# Altium footprint library dc-dc-converter.PCBLIB: 16 footprints
Each footprint in its own frame and in the unit in brackets; x right, y up, seen from the top. Pads: shape width x height; smd on the part's side, far side on the other; paste and mask are expansions set on the pad; w line width, h text height; cw(c..) or ccw(c..) is an arc to the next point about the centre after c.
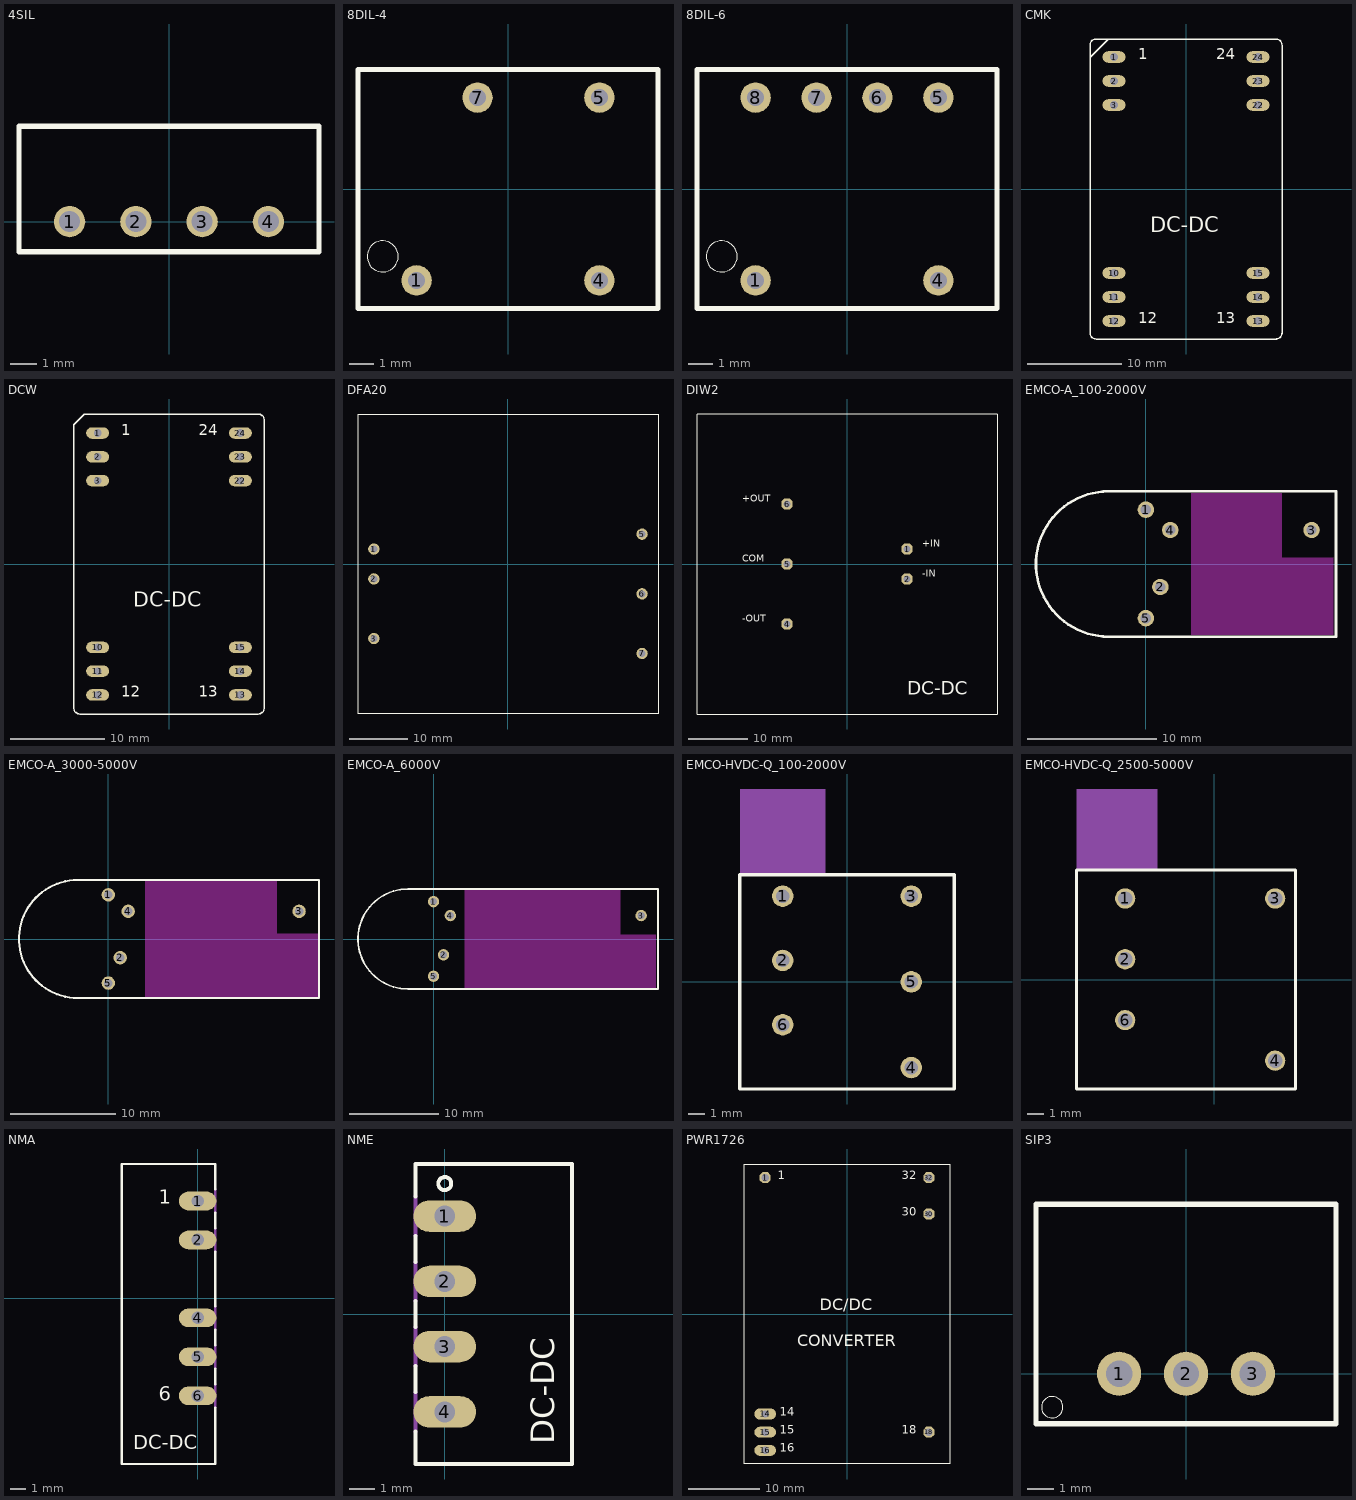
[diagram p0: the footprints below, top view; thin cyan lines are the x and y axes]

## 4SIL [mil]
pads (4):
  round 47.25 hole 31.5: 1(-150,0) 2(-50,0) 3(50,0) 4(150,0)
Top Overlay:
  lines w8: -226.38,-45.28 226.38,-45.28 226.38,143.7 -226.38,143.7 -226.38,-45.28

## 8DIL-4 [mil]
pads (4):
  round 50 hole 27.56: 1(-150,-150) 4(150,-150) 5(150,150) 7(-50,150)
Top Overlay:
  circle w0: c-205.5,-110.5 r25.5
  lines w8: -246,-196 -246,196 246,196 246,-196 -246,-196

## 8DIL-6 [mil]
pads (6):
  round 50 hole 27.56: 1(-150,-150) 4(150,-150) 5(150,150) 6(50,150) 7(-50,150) 8(-150,150)
Top Overlay:
  circle w0: c-205.5,-110.5 r25.5
  lines w8: -246,-196 -246,196 246,196 246,-196 -246,-196

## CMK [mil]
pads (12):
  oval 96x48 hole 32: 1(-300,550) 2(-300,450) 3(-300,350) 10(-300,-350) 11(-300,-450) 12(-300,-550) 13(300,-550) 14(300,-450) 15(300,-350) 22(300,350) 23(300,450) 24(300,550)
Top Overlay:
  lines w6: -400,550 -400,-600 ccw(c-375,-600) -375,-625 375,-625 ccw(c375,-600) 400,-600 400,600 ccw(c375,600) 375,625 -325,625 ; -400,550 -325,625 ; -400,550 -400,600 cw(c-375,600) -375,625 -325,625
  text "DC-DC" at -150,-200 h108.5
  text "1" at -200,525 h77.5
  text "24" at 125,525 h77.5
  text "12" at -200,-575 h77.5
  text "13" at 125,-575 h77.5

## DCW [mil]
pads (12):
  oval 96x48 hole 32: 1(-300,550) 2(-300,450) 3(-300,350) 10(-300,-350) 11(-300,-450) 12(-300,-550) 13(300,-550) 14(300,-450) 15(300,-350) 22(300,350) 23(300,450) 24(300,550)
Top Overlay:
  lines w6: -400,-605 -400,585 -355,630 375,630 cw(c375,605) 400,605 400,-605 cw(c375,-605) 375,-630 -375,-630 cw(c-375,-605) -400,-605
  text "DC-DC" at -150,-200 h108.5
  text "1" at -200,525 h77.5
  text "24" at 125,525 h77.5
  text "12" at -200,-575 h77.5
  text "13" at 125,-575 h77.5

## DFA20 [mil]
pads (6):
  round 76 hole 47.24: 1(-900,100) 2(-900,-100) 3(-900,-500) 5(900,200) 6(900,-200) 7(900,-600)
Top Overlay:
  lines w8: -1006.3,-1005.91 1006.5,-1005.91 1006.5,1005.91 -1006.3,1005.91 -1006.3,-1005.91

## DIW2 [mil]
pads (5):
  oct 70.5x70.5 hole 47: 1(400,100) 2(400,-100) 4(-400,-400) 5(-400,0) 6(-400,400)
Top Overlay:
  lines w6: -1000,-1000 1000,-1000 1000,1000 -1000,1000 -1000,-1000
  text "DC-DC" at 400,-900 h155
  text "+IN" at 500,100 h77.5
  text "-IN" at 500,-100 h77.5
  text "COM" at -700,0 h77.5
  text "-OUT" at -700,-400 h77.5
  text "+OUT" at -700,400 h77.5

## EMCO-A_100-2000V [mil]
pads (5):
  round 50 hole 31.5: 1(0,165.16) 2(44.09,-69.88) 3(503.94,103.35) 4(74.02,103.35) 5(0,-164.76)
Top Layer keep-out:
  rectangle: 137.8,-216.54 413.39,216.54
  rectangle: 413.39,-216.54 570.87,19.69
Top Overlay:
  lines w8: -113.19,-220.96 cw(c-113.19,0) -113.19,220.96 578.25,220.96 578.25,-220.96 -113.19,-220.96

## EMCO-A_3000-5000V [mil]
pads (5):
  round 50 hole 31.5: 1(0,165.16) 2(44.09,-69.88) 3(712.99,103.35) 4(74.02,103.35) 5(0,-164.76)
Top Layer keep-out:
  rectangle: 137.8,-216.54 629.92,216.54
  rectangle: 629.92,-216.54 787.4,19.69
Top Overlay:
  lines w8: -113.19,-220.96 cw(c-113.19,0) -113.19,220.96 787.3,220.96 787.3,-220.96 -113.19,-220.96

## EMCO-A_6000V [mil]
pads (5):
  round 50 hole 31.5: 1(0,165.16) 2(44.09,-69.88) 3(918.11,103.35) 4(74.02,103.35) 5(0,-164.76)
Top Layer keep-out:
  rectangle: 137.8,-216.54 826.77,216.54
  rectangle: 826.77,-216.54 984.25,19.69
Top Overlay:
  lines w8: -113.19,-220.96 cw(c-113.19,0) -113.19,220.96 992.42,220.96 992.42,-220.96 -113.19,-220.96

## EMCO-HVDC-Q_100-2000V [mil]
pads (6):
  round 50 hole 31.5: 1(-150,200) 2(-150,50) 3(150,200) 4(150,-200) 5(150,0) 6(-150,-100)
Top Overlay:
  lines w8: -250,-250 250,-250 250,250 -250,250 -250,-250
Mechanical 27:
  rectangle: -250,250 -50,450

## EMCO-HVDC-Q_2500-5000V [mil]
pads (5):
  round 50 hole 35.43: 1(-220,200) 2(-220,50) 3(150,200) 4(150,-200) 6(-220,-100)
Top Overlay:
  lines w8: -340,-270 200,-270 200,270 -340,270 -340,-270
Mechanical 27:
  rectangle: -340,270 -140,470

## NMA [mil]
pads (5):
  oval 96x48 hole 32: 1(0,250) 2(0,150) 4(0,-50) 5(0,-150) 6(0,-250)
Top Overlay:
  lines w6: 45,-280 45,-425 -195,-425 -195,345 45,345 45,280 ; 45,-220 45,-180 ; 45,-120 45,-80 ; 45,-20 45,120 ; 45,180 45,220
  text "DC-DC" at -165,-400 h62
  text "1" at -100,230 h62
  text "6" at -100,-275 h62
Mechanical 16:
  lines w6: 45,-280 45,-220 ; 45,-180 45,-120 ; 45,-80 45,-20 ; 45,120 45,180 ; 45,220 45,280

## NME [mil]
pads (4):
  oval 96x48 hole 32: 1(0,150) 2(0,50) 3(0,-50) 4(0,-150)
Top Overlay:
  circle w6: c0,200 r10
  lines w6: -45,-180 -45,-230 195,-230 195,230 -45,230 -45,180 ; -45,-120 -45,-80 ; -45,-20 -45,20 ; -45,80 -45,120
  text "DC-DC" at 180,-200 h62
Mechanical 16:
  lines w6: -45,-180 -45,-120 ; -45,-80 -45,-20 ; -45,20 -45,80 ; -45,120 -45,180

## PWR1726 [mil]
pads (7):
  oct 60x60 hole 40: 1(-450,750) 18(450,-650) 30(450,550) 32(450,750)
  oval 120x60 hole 40: 14(-450,-550) 15(-450,-650) 16(-450,-750)
Top Overlay:
  lines w6: -565,-825 565,-825 565,825 -565,825 -565,-825
  text "DC/DC" at -150,0 h108.5
  text "1" at -380,725 h77.5
  text "14" at -370,-575 h77.5
  text "16" at -370,-775 h77.5
  text "18" at 300,-675 h77.5
  text "30" at 300,525 h77.5
  text "32" at 300,725 h77.5
  text "15" at -370,-675 h77.5
  text "CONVERTER" at -275,-200 h108.5

## SIP3 [mil]
pads (3):
  round 66 hole 39.37: 1(-100,0) 2(0,0) 3(100,0)
Top Overlay:
  circle w0: c-200,-50 r15.99
  lines w8: -224.28,-74.8 224.28,-74.8 224.28,253.54 -224.28,253.54 -224.28,-74.8